# Altium footprint library Memory_Expansion_Daughter_Board_PcbLib.PcbLib: 11 footprints
Each footprint in its own frame and in the unit in brackets; x right, y up, seen from the top. Pads: shape width x height; smd on the part's side, far side on the other; paste and mask are expansions set on the pad; w line width, h text height; cw(c..) or ccw(c..) is an arc to the next point about the centre after c.
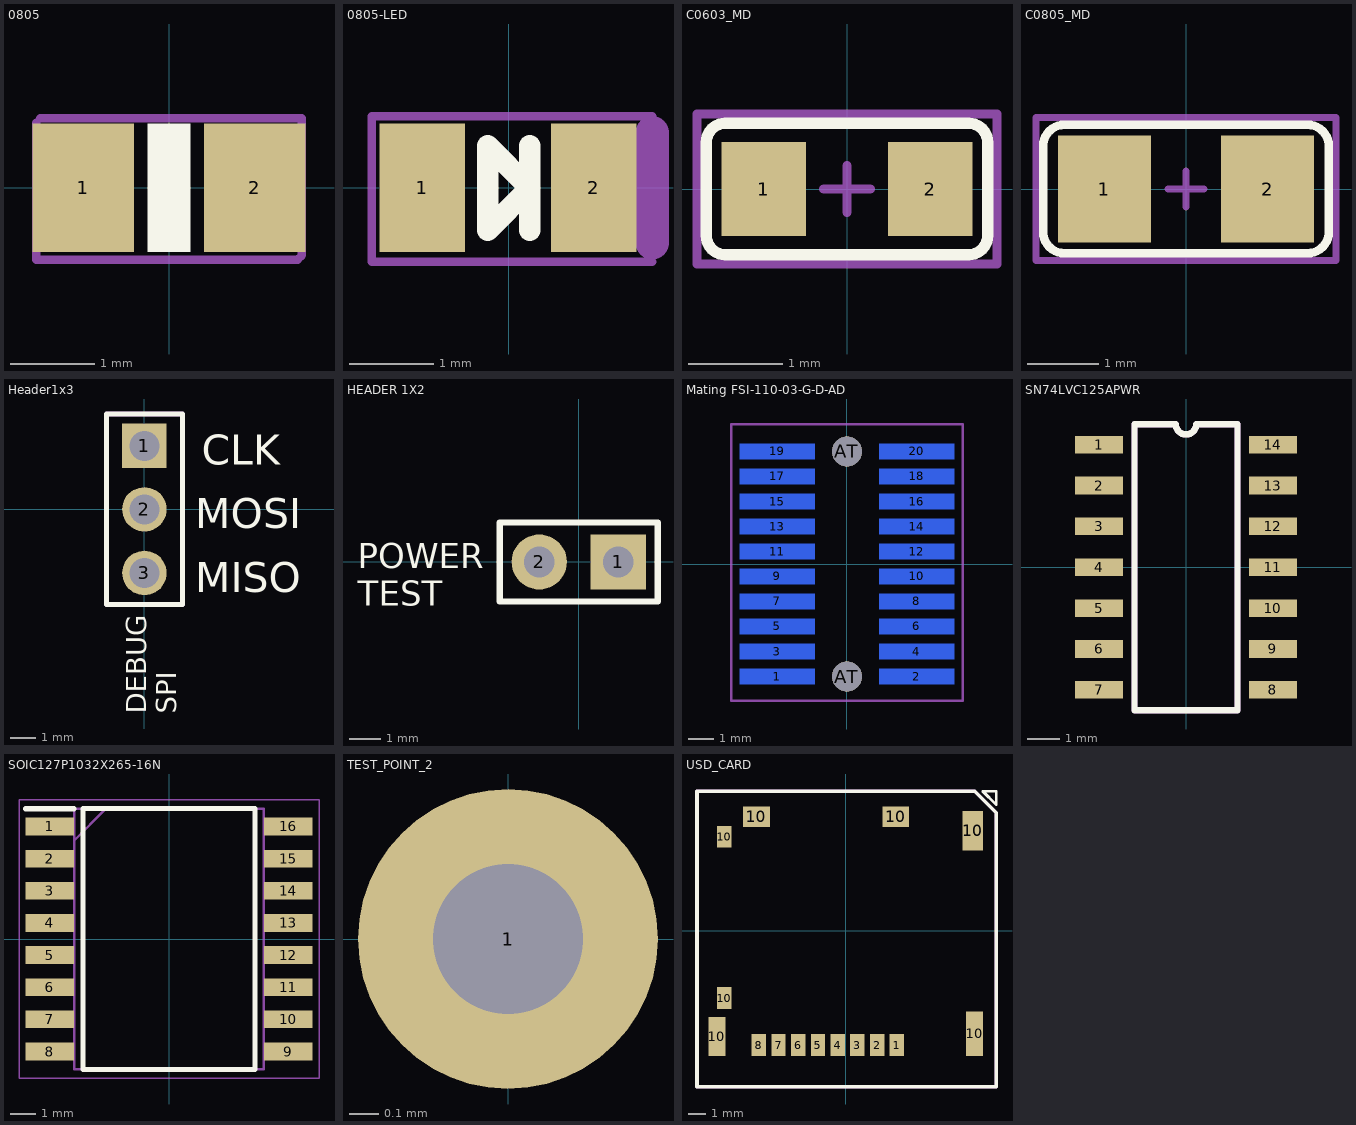
[diagram p0: the footprints below, top view; thin cyan lines are the x and y axes]

## 0805 [mil]
pads (2):
  rect 47.24x60 smd: 1(-40,0) 2(40,0)
Top Overlay:
  rectangle: -10,-30 10,30
Mechanical 15:
  lines w3.94: -62.01,30.51 -62.01,-33.46 60.04,-33.46 62.01,-31.5 62.01,32.48 -60.04,32.48
  text ".Designator" at -58.7,-2.44 h19.68
3D body "RES0805(2012M).STEP": height 31.1, standoff 0, extent -50,-24.49 48.75,24.51

## 0805-LED [mil]
height 122.05
pads (2):
  rect 40x60 smd: 1(-40.35,0) 2(39.65,0)
Top Overlay:
  lines w10: 9.84,-19.68 9.84,19.68 ; -9.84,-19.68 -9.84,19.68 9.84,0 -9.84,-19.68
Mechanical 15:
  lines w3.94: 66.93,-34.45 -63.98,-34.45 -63.98,33.46 66.93,33.46
  lines w15.75: 66.93,-25.59 66.93,25.59
  text ".Designator" at -41.34,-1.97 h19.68
3D body "User Library-led_0805LED0805_red.STEP": height 43.31, standoff 0, extent -39.76,-24.6 39.77,24.61

## C0603_MD [mm] "Chip Capacitor, Body 1.6x0.8mm, IPC Medium Density"
height 0.85
pads (2):
  rect 0.9x1 smd: 1(-0.889,0) 2(0.889,0)
Top Overlay:
  lines w0.12: -1.5,-0.5 ccw(c-1.3,-0.5) -1.3,-0.7 1.3,-0.7 ccw(c1.3,-0.5) 1.5,-0.5 1.5,0.5 ccw(c1.3,0.5) 1.3,0.7 -1.3,0.7 ccw(c-1.3,0.5) -1.5,0.5 -1.5,-0.5
Mechanical 15:
  lines w0.1: -0.25,0 0.25,0 ; 0,-0.25 0,0.25 ; -1.6,-0.8 -1.6,0.8 1.6,0.8 1.6,-0.8 -1.6,-0.8
3D body "C0603.step": height 0.79, standoff 0, extent -1,-0.406 1,0.381

## C0805_MD [mm] "Chip Capacitor, Body 2.0x1.3mm, IPC Medium Density"
height 1.1
pads (2):
  rect 1.3x1.5 smd: 1(-1.143,0) 2(1.143,0)
Top Overlay:
  lines w0.12: -2,-0.6 ccw(c-1.7,-0.6) -1.7,-0.9 1.7,-0.9 ccw(c1.7,-0.6) 2,-0.6 2,0.6 ccw(c1.7,0.6) 1.7,0.9 -1.7,0.9 ccw(c-1.7,0.6) -2,0.6 -2,-0.6
Mechanical 15:
  lines w0.1: -0.25,0 0.25,0 ; 0,-0.25 0,0.25 ; -2.1,-1 2.1,-1 2.1,1 -2.1,1 -2.1,-1
3D body "C0805.step": height 0.79, standoff 0, extent -1.254,-0.61 1.254,0.635

## Header1x3 [mil]
pads (3):
  rect 70x70 hole 47.24: 1(0,100)
  round 70 hole 47.24: 2(0,0) 3(0,-100)
Top Overlay:
  lines w7.87: -60,-150 60,-150 60,150 -60,150 -60,-150
  text "DEBUG  / SPI" at 50.2,-321.85 h31.5
  text "MISO" at 80,-130 h47.24
  text "MOSI" at 80,-30 h47.24
  text "CLK" at 90,70 h47.24
Mechanical 15:
  lines w7.87: -60,-150 -60,150 60,150 60,-150 -60,-150
  text ".Designator" at 0,98.43 h19.68
3D body "TSW-103-08-G-S-RA.stp": height 119.5, standoff -89.5, extent -391.25,-150 11.25,150

## HEADER 1X2 [mil]
pads (2):
  rect 70x70 hole 39: 1(50,0)
  round 70 hole 39: 2(-50,0)
Top Overlay:
  lines w8: -100,-50 100,-50 100,50 -100,50 -100,-50
  text "POWER / TEST" at -279.53,-55.12 h31.5
Mechanical 15:
  lines w3.94: -99.41,-50.2 100.39,-50.2 100.39,49.21 -99.41,49.21 -99.41,-50.2
  text ".Designator" at -78.74,-36.42 h19.68
3D body "TSW-102-08-G-S-RA.stp": height 119.5, standoff -89.5, extent -100,-13.44 100,389.06
3D body: height 69.09, standoff 0, extent 0,0 0,0

## Mating FSI-110-03-G-D-AD [mm]
pads (22):
  rect 3x0.61 smd far side: 1(-2.8,-4.5) 2(2.8,-4.5) 3(-2.8,-3.5) 4(2.8,-3.5) 5(-2.8,-2.5) 6(2.8,-2.5) 7(-2.8,-1.5) 8(2.8,-1.5) 9(-2.8,-0.5) 10(2.8,-0.5) 11(-2.8,0.5) 12(2.8,0.5) 13(-2.8,1.5) 14(2.8,1.5) 15(-2.8,2.5) 16(2.8,2.5) 17(-2.8,3.5) 18(2.8,3.5) 19(-2.8,4.5) 20(2.8,4.5)
  round 1.2 hole 1.2: AT(0,-4.5) AT(0,4.5)
Bottom Overlay:
  lines w0.1: -4.625,-5.48 4.625,-5.48 4.625,5.6 -4.625,5.6 -4.625,-5.48
  text "DVCC" at -5.45,-4.775 h0.5
  text "ANT" at -5.7,-3.775 h0.5
  text "BAT" at -5.7,-2.75 h0.5
  text "CLK" at -5.7,0.2 h0.5
  text "MISO" at -5.492,1.25 h0.5
  text "MOSI" at -5.533,2.2 h0.5
  text "IC2C" at 7.2,3.625 h0.5
  text "ADC" at 6.992,1.167 h0.5
  text "GPIO" at 7.2,-1.292 h0.5
  text "GND" at 6.992,-3.75 h0.5
  text "CS" at -5.95,3.825 h0.5
  text "GPIO" at -5.492,-1.2 h0.5
Mechanical 15:
  lines w0.1: -4.625,-5.48 4.625,-5.48 4.625,5.6 -4.625,5.6 -4.625,-5.48
  text "'.Designator'" at -0.2,4.2 h0.7
3D body "FSI-110-03-G-D-AD.stp": height -0.29, standoff -6.09, extent -5,-5.38 5,5.38

## SN74LVC125APWR [mm]
pads (14):
  rect 1.5x0.55 smd: 1(-2.7,3.81) 2(-2.7,2.54) 3(-2.7,1.27) 4(-2.7,0) 5(-2.7,-1.27) 6(-2.7,-2.54) 7(-2.7,-3.81) 8(2.7,-3.81) 9(2.7,-2.54) 10(2.7,-1.27) 11(2.7,0) 12(2.7,1.27) 13(2.7,2.54) 14(2.7,3.81)
Top Overlay:
  lines w0.2: -1.6,-4.445 1.6,-4.445 1.6,4.445 0.318,4.445 cw(c0,4.445) -0.318,4.445 -1.6,4.445 -1.6,-4.445
Mechanical 15:
  lines w0.2: -1.6,-4.445 -1.6,4.445 -0.318,4.445 ccw(c0,4.445) 0.318,4.445 1.6,4.445 1.6,-4.445 -1.6,-4.445
  text "'.Designator'" at -0.2,3.8 h0.7
3D body "D14.step": height 1.76, standoff 0, extent -3.099,-4.369 3.099,4.369

## SOIC127P1032X265-16N [mm]
pads (16):
  rect 1.925x0.7 smd: 1(-4.712,4.445) 2(-4.712,3.175) 3(-4.712,1.905) 4(-4.712,0.635) 5(-4.712,-0.635) 6(-4.712,-1.905) 7(-4.712,-3.175) 8(-4.712,-4.445) 9(4.712,-4.445) 10(4.712,-3.175) 11(4.712,-1.905) 12(4.712,-0.635) 13(4.712,0.635) 14(4.712,1.905) 15(4.712,3.175) 16(4.712,4.445)
Top Overlay:
  lines w0.2: -5.675,5.145 -3.75,5.145 ; -3.4,-5.15 3.4,-5.15 3.4,5.15 -3.4,5.15 -3.4,-5.15
Mechanical 15:
  lines w0.1: -3.75,3.88 -2.48,5.15 ; -3.75,-5.15 3.75,-5.15 3.75,5.15 -3.75,5.15 -3.75,-5.15
Mechanical 20:
  lines w0.05: -5.925,-5.5 5.925,-5.5 5.925,5.5 -5.925,5.5 -5.925,-5.5
3D body "User Library-IPC SO.step": height 2.8, standoff 0, extent -5.188,-5.25 5.188,5.25
3D body: height 0.25, standoff 0, extent 0,0 0,0

## TEST_POINT_2 [mil]
height 122.05
pads (1):
  round 40 hole 20: 1(0,0)
Mechanical 15:
  text ".Designator" at 0,0 h19.68

## USD_CARD [mm]
pads (15):
  rect 0.8x1.24 smd: 1(2.85,-6.378) 2(1.75,-6.378) 3(0.65,-6.378) 4(-0.45,-6.378) 5(-1.55,-6.378) 6(-2.65,-6.378) 7(-3.75,-6.378) 8(-4.85,-6.378) 10(-6.79,-3.748)
  rect 0.95x2.2 smd: 10(-7.195,-5.898)
  rect 0.8x1.2 smd: 10(-6.79,5.252)
  rect 1.5x1.15 smd: 10(-4.99,6.378) 10(2.79,6.378)
  rect 1.15x2.2 smd: 10(7.095,5.582)
  rect 0.95x2.5 smd: 10(7.195,-5.748)
Top Overlay:
  lines w0.15: 7.65,7.798 7.836,7.798 8.209,7.798 8.395,7.798 8.395,7.612 8.395,7.24 8.395,7.053 7.65,7.798
  lines w0.2: -8.305,-8.702 8.395,-8.702 8.395,6.598 7.195,7.798 -8.305,7.798 -8.305,-8.702
Mechanical 15:
  lines w0.2: -8.305,-8.702 -8.305,7.798 7.195,7.798 8.395,6.598 8.395,-8.702 -8.305,-8.702
  text "'.Designator'" at -5.8,0.1 h1
3D body "5031821852.stp": height 1.43, standoff -0.02, extent -7.489,-8.156 7.451,6.795